# EAGLE library part JOYSTICK (library everykey)
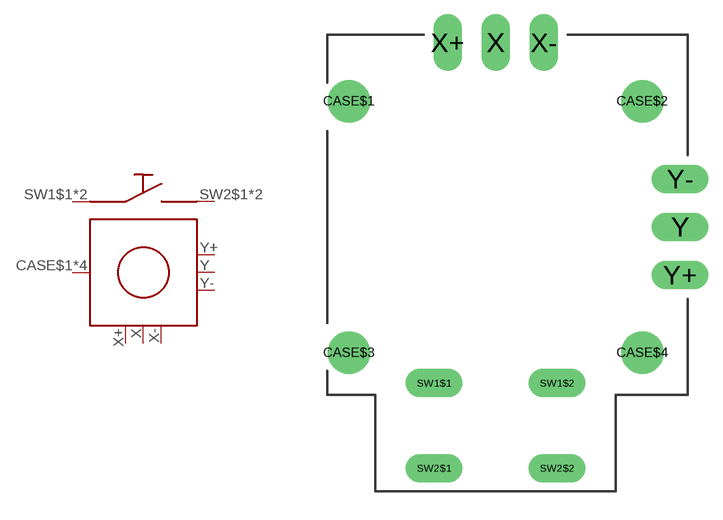
[diagram p12: symbol with the pads of JOYSTICK25X20; footprint JOYSTICK25X20]

Designator prefix -

## JOYSTICK25X20  [JOYSTICK25X20]
CASE$1  CASE
CASE$2  CASE
CASE$3  CASE
CASE$4  CASE
SW1$1  SW1
SW1$2  SW1
SW2$1  SW2
SW2$2  SW2
X  X
X+  X+
X-  X-
Y  Y
Y+  Y+
Y-  Y-

## Footprint JOYSTICK25X20 (pad centres in mm)
drill 1.5: CASE$1 -7.75,6.65; CASE$2 7.75,6.65; CASE$3 -7.75,-6.65; CASE$4 7.75,-6.65
drill 1 long: SW1$1 -3.25,-8.25; SW1$2 3.25,-8.25; SW2$1 -3.25,-12.75; SW2$2 3.25,-12.75; X 0,9.75; X+ -2.54,9.75; X- 2.54,9.75; Y 9.75,0; Y+ 9.75,-2.54; Y- 9.75,2.54